# Altium footprint library charger_LT3652.PcbLib: 2 footprints
Each footprint in its own frame and in the unit in brackets; x right, y up, seen from the top. Pads: shape width x height; smd on the part's side, far side on the other; paste and mask are expansions set on the pad; w line width, h text height; cw(c..) or ccw(c..) is an arc to the next point about the centre after c.
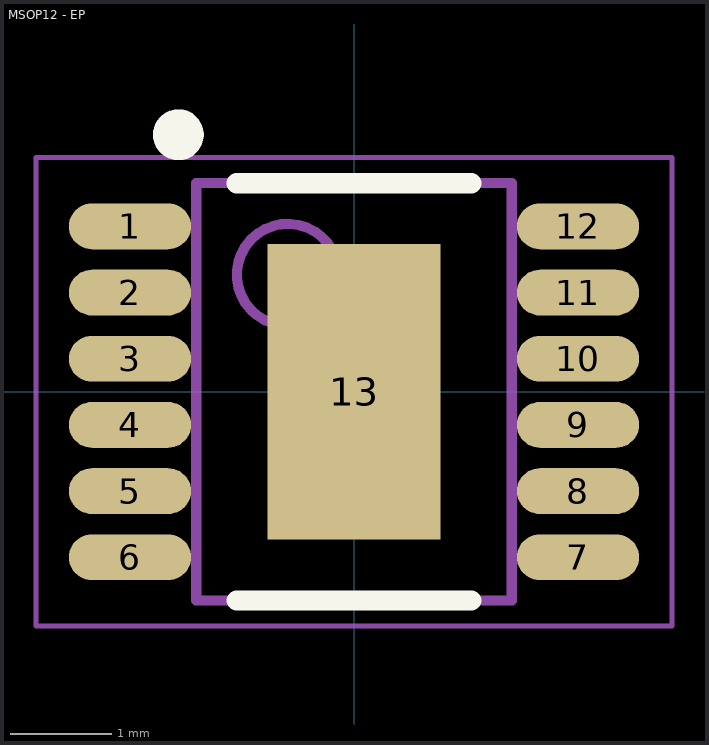
[diagram p0: the footprints below, top view; thin cyan lines are the x and y axes]

## MSOP12 - EP [mm] "MSOP, 12-Leads, Body 4,00x3,00mm, Pitch 0,65mm, Thermal Pad 2,90x1,70mm, IPC Medium Density"
height 1.1
pads (13):
  oval 1.2x0.45 smd: 1(-2.2,1.625) 2(-2.2,0.975) 3(-2.2,0.325) 4(-2.2,-0.325) 5(-2.2,-0.975) 6(-2.2,-1.625) 7(2.2,-1.625) 8(2.2,-0.975) 9(2.2,-0.325) 10(2.2,0.325) 11(2.2,0.975) 12(2.2,1.625)
  rect 1.7x2.9 smd: 13(0,0)
Top Overlay:
  circle w0.25: c-1.725,2.525 r0.125
  lines w0.2: -1.15,-2.05 1.15,-2.05 ; -1.15,2.05 1.15,2.05
Mechanical 13:
  circle w0.1: c-0.65,1.15 r0.5
  lines w0.1: -1.55,-2.05 1.55,-2.05 1.55,2.05 -1.55,2.05 -1.55,-2.05
Mechanical 15:
  lines w0.05: -3.125,-2.3 3.125,-2.3 3.125,2.3 -3.125,2.3 -3.125,-2.3
  lines w0.1: -0.5,0 0.5,0 ; 0,-0.5 0,0.5
3D body "User Library-msop-12.STEP": height 1.1, standoff 0, extent -2.45,-2.02 2.45,2.02

## PCBComponent_1 [mm]